# EAGLE library part STM32L052K8T (library QFP80P900X900X160-32N)
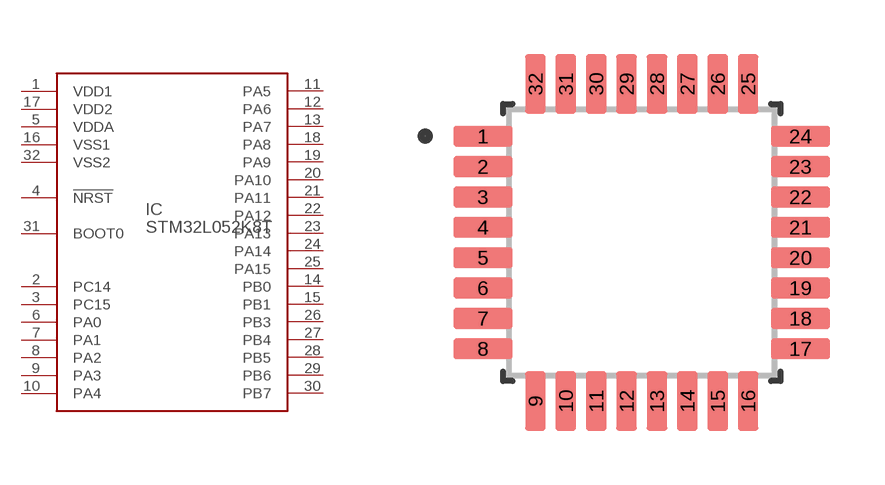
[diagram p0: symbol with the pads of QFP80P900X900X160-32N; footprint QFP80P900X900X160-32N]

Designator prefix IC

## STM32L052K8T  [QFP80P900X900X160-32N]
1  VDD1  pwr
2  PC14
3  PC15
4  !NRST  in
5  VDDA  pwr
6  PA0
7  PA1
8  PA2
9  PA3
10  PA4
11  PA5
12  PA6
13  PA7
14  PB0
15  PB1
16  VSS1  pwr
17  VDD2  pwr
18  PA8
19  PA9
20  PA10
21  PA11
22  PA12
23  PA13
24  PA14
25  PA15
26  PB3
27  PB4
28  PB5
29  PB6
30  PB7
31  BOOT0  in
32  VSS2  pwr

## Footprint QFP80P900X900X160-32N (pad centres in mm)
smd 1.56 x 0.55: 1 -4.18,2.8; 2 -4.18,2; 3 -4.18,1.2; 4 -4.18,0.4; 5 -4.18,-0.4; 6 -4.18,-1.2; 7 -4.18,-2; 8 -4.18,-2.8; 17 4.18,-2.8; 18 4.18,-2; 19 4.18,-1.2; 20 4.18,-0.4; 21 4.18,0.4; 22 4.18,1.2; 23 4.18,2; 24 4.18,2.8
smd 0.55 x 1.56: 9 -2.8,-4.18; 10 -2,-4.18; 11 -1.2,-4.18; 12 -0.4,-4.18; 13 0.4,-4.18; 14 1.2,-4.18; 15 2,-4.18; 16 2.8,-4.18; 25 2.8,4.18; 26 2,4.18; 27 1.2,4.18; 28 0.4,4.18; 29 -0.4,4.18; 30 -1.2,4.18; 31 -2,4.18; 32 -2.8,4.18